# Altium integrated library SLW-1678105-6A-N-D.IntLib: 1 symbol
Pins are listed as number, name and electrical type; pins without a type are passive.

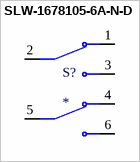
[diagram p0: symbol SLW-1678105-6A-N-D]

## SLW-1678105-6A-N-D
designator S?
16 x 7.8 x 10.5 mm, 6 mm Raised Slide Actuator, Through Hole, Slide Switch; MF: Same Sky; MP: SLW-1678105-6A-N-D; SnapEDA_Link: https://www.snapeda.com/parts/SLW-1678105-6A-N-D/Same+Sky/view-part/?ref=snap; Package: Package; Value: *; Check_prices: https://www.snapeda.com/parts/SLW-1678105-6A-N-D/Same+Sky/view-part/?ref=eda
footprint SW_SLW-1678105-6A-N-D
pins: 1, 2, 3, 4, 5, 6